# Altium integrated library temperature_transducers.IntLib: 4 symbols
Pins are listed as number, name and electrical type; pins without a type are passive.

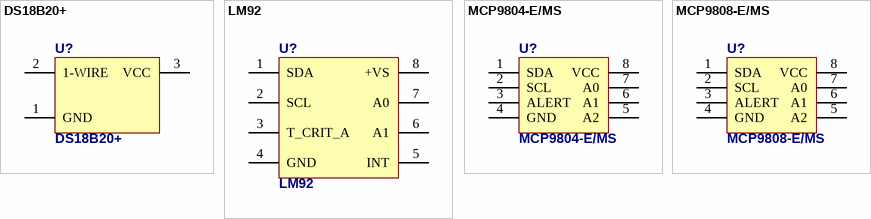
[diagram p0: symbols DS18B20+ to MCP9808-E/MS]

## DS18B20+
designator U?
DS18B20+ (TO92) 1-Wire Digital Thermometer
footprint TO-92A
footprint TO-92B
footprint TO-92C
footprint TO-92D
pins: 1 GND, 2 1-WIRE, 3 VCC

## LM92
designator U?
±0.33°C Accurate, 12-Bit + Sign Temperature Sensor and Thermal Window Comparator with Two-Wire Interface; Published: 19-Feb-2006; PackageReference: SO8
footprint SO8 (Small Outline; 8 Leads; Body Width 3.7 mm; Pitch 1.27 mm)
pins: 1 SDA, 2 SCL, 3 T_CRIT_A, 4 GND (power), 5 INT, 6 A1, 7 A0, 8 +VS (power)

## MCP9804-E/MS
designator U?
+/- 0.25C Digital Temperature Sensor; Supplier 1: Farnell; Supplier Part Number 1: 1825061
footprint MSOP8
pins: 1 SDA, 2 SCL, 3 ALERT, 4 GND (power), 5 A2, 6 A1, 7 A0, 8 VCC

## MCP9808-E/MS
designator U?
+/- 0.5C Digital Temperature Sensor; Supplier 1: TME; Supplier 2: Farnell; Supplier Part Number 1: MCP9808-E/MS; Supplier Part Number 2: 2080523
footprint MSOP8
pins: 1 SDA, 2 SCL, 3 ALERT, 4 GND (power), 5 A2, 6 A1, 7 A0, 8 VCC